# Altium footprint library Components - 08.07.23 - 17.21.PcbLib: 1 footprints
Each footprint in its own frame and in the unit in brackets; x right, y up, seen from the top. Pads: shape width x height; smd on the part's side, far side on the other; paste and mask are expansions set on the pad; w line width, h text height; cw(c..) or ccw(c..) is an arc to the next point about the centre after c.
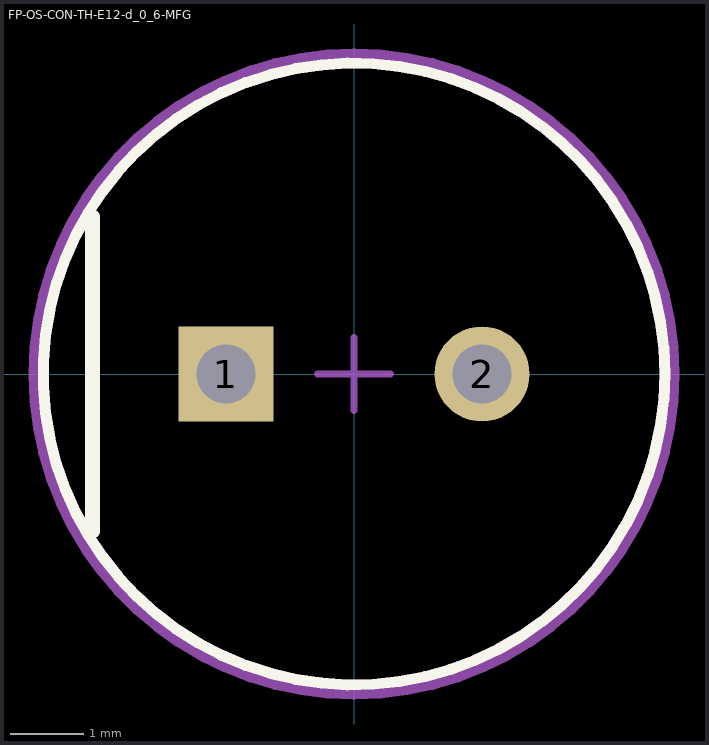
[diagram p0: the footprint, top view; thin cyan lines are the x and y axes]

## FP-OS-CON-TH-E12-d_0_6-MFG [mm]
pads (2):
  rect 1.3x1.3 hole 0.8 paste-1000 mask+0: 1(-1.75,0)
  round 1.3 hole 0.8 paste-1000 mask+0: 2(1.75,0)
Top Overlay:
  circle w0.15: c0,0 r4.25
  lines w0.2: -3.575,-2.15 -3.575,2.15
Top Assembly:
  text ".Designator" at 0,0.188 h1
Top 3D Body:
  circle w0.15: c0,0 r4.25
Top Courtyard:
  lines w0.2: -4.35,0 ccw(c0,0) 4.35,0 ccw(c0,0) -4.35,0
Top Component Center:
  lines w0.1: -0.5,0 0.5,0 ; 0,-0.5 0,0.5
3D body "Cap_Panasonic_16SEPC270M_eec.STEP": height 0.25, standoff 0, extent -4.35,-4.35 4.35,4.35